# EAGLE library part MICROSD (library Yobi)
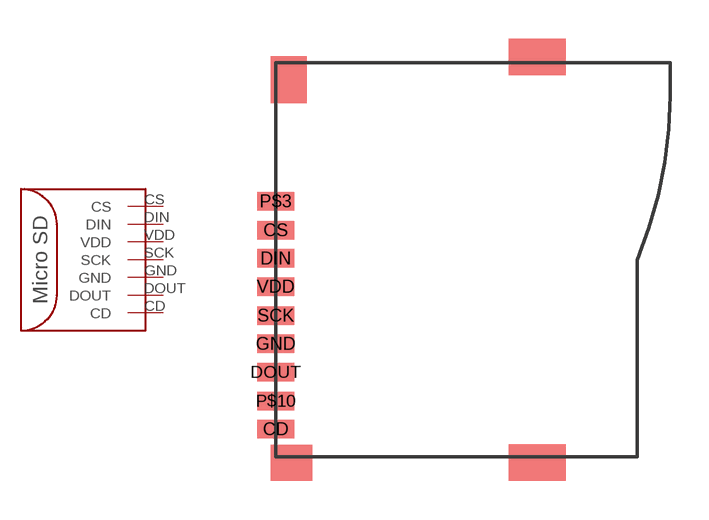
[diagram p2: symbol with the pads of MICROSD; footprint MICROSD]

Designator prefix -

## MICROSD  [MICROSD]
CD  CD  out
CS  CS
DIN  DIN  in
DOUT  DOUT  out
GND  GND  pwr
SCK  SCK
VDD  VDD  pwr

## Footprint MICROSD (pad centres in mm)
smd 1.422 x 0.711: CD -6.35,-6.553; CS -6.35,1.143; DIN -6.35,0.051; DOUT -6.35,-4.343; GND -6.35,-3.251; P$3 -6.35,2.261; P$10 -6.35,-5.461; SCK -6.35,-2.159; VDD -6.35,-1.041